# Altium schematic symbol library EL-sense_Solder_Bridge_ Jumpers.SchLib: 3 symbols
Pins are listed as number, name and electrical type; pins without a type are passive.

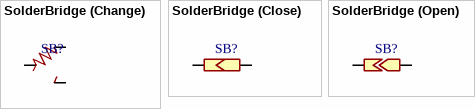
[diagram p0: symbols SolderBridge (Change) to SolderBridge (Open)]

## SolderBridge (Change)
designator SB?  (value not drawn)  (no BOM)
pins: 1, 2, 3

## SolderBridge (Close)
designator SB?
pins: 1, 2

## SolderBridge (Open)
designator SB?  (value not drawn)  (no BOM)
pins: 1, 2